# Altium footprint library CONN_5x2_687310124422.PcbLib: 1 footprints
Each footprint in its own frame and in the unit in brackets; x right, y up, seen from the top. Pads: shape width x height; smd on the part's side, far side on the other; paste and mask are expansions set on the pad; w line width, h text height; cw(c..) or ccw(c..) is an arc to the next point about the centre after c.
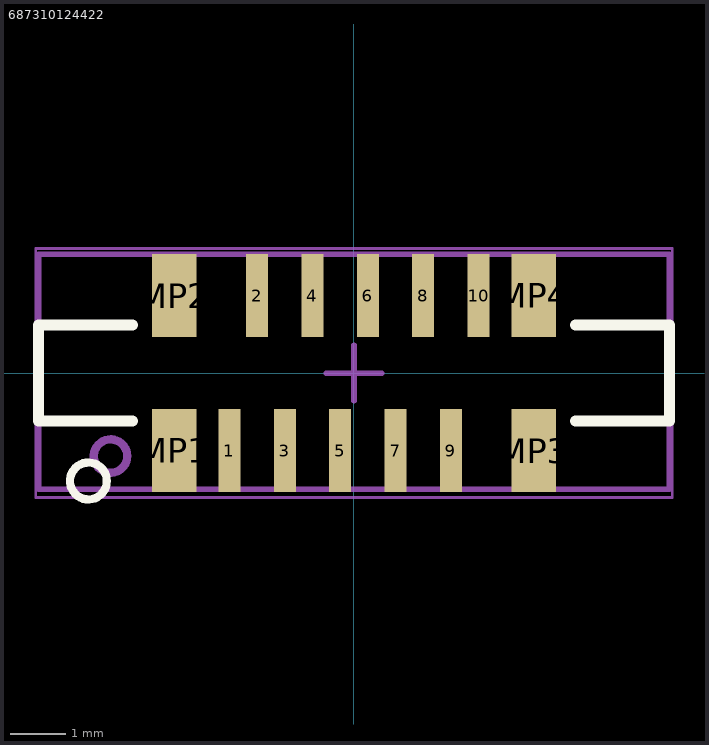
[diagram p0: the footprint, top view; thin cyan lines are the x and y axes]

## 687310124422 [mm]
pads (14):
  rect 0.4x1.5 smd: 1(-2.25,-1.4) 2(-1.75,1.4) 3(-1.25,-1.4) 4(-0.75,1.4) 5(-0.25,-1.4) 6(0.25,1.4) 7(0.75,-1.4) 8(1.25,1.4) 9(1.75,-1.4) 10(2.25,1.4)
  rect 0.8x1.5 smd: MP1(-3.25,-1.4) MP2(-3.25,1.4) MP3(3.25,-1.4) MP4(3.25,1.4)
Top Overlay:
  circle w0.15: c-4.8,-1.95 r0.334
  lines w0.2: -4,-0.87 -5.7,-0.87 -5.7,0.87 -4,0.87 ; 4,-0.87 5.7,-0.87 5.7,0.87 4,0.87
Top Assembly:
  circle w0.15: c-4.4,-1.5 r0.302
  lines w0.1: -5.7,-2.1 -5.7,2.15 5.7,2.15 5.7,-2.1 -5.7,-2.1
  text ".Designator" at -4.998,-0.333 h1
Top Courtyard:
  lines w0.05: -5.75,-2.25 5.75,-2.25 5.75,2.25 -5.75,2.25 -5.75,-2.25
  lines w0.1: -0.5,0 0.5,0 ; 0,-0.5 0,0.5
3D body "687310124422.stp": height 4.55, standoff 0, extent -5.7,-2.11 5.7,2.11